# EAGLE library part ATMEL_MEGA8-P (library AdapterDIP8M16)
MICROCONTROLLER 8 Kbytes FLASH, 1 kbytes SRAM, 512 bytes EEPROM, USART, 4-channel 10 bit ADC, 2-channel 8 bit ADC Pin compatible with Atmega48, ATMega88, ATMega168 Source: avr.lbr
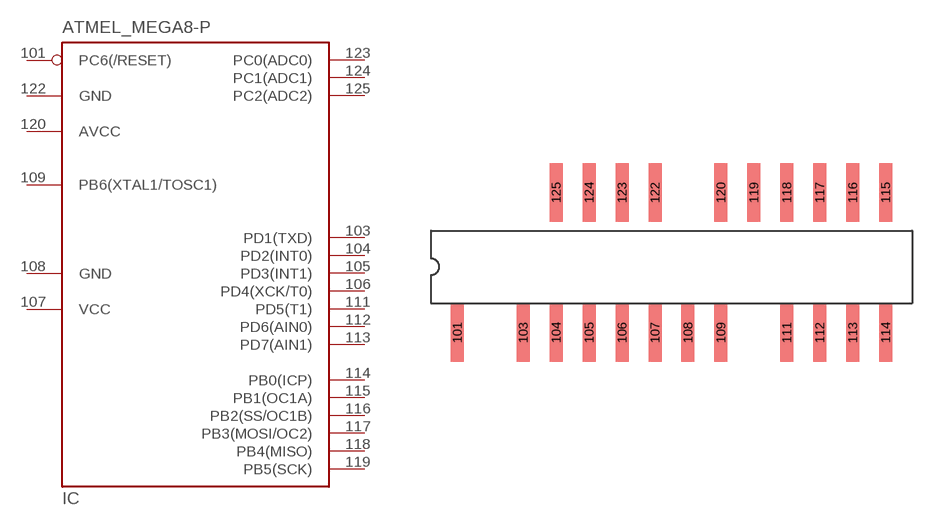
[diagram p2: symbol with the pads of ATMEL_DIL28-3; footprint ATMEL_DIL28-3]

Designator prefix IC

## ATMEL_MEGA8-P  [ATMEL_DIL28-3]
101  PC6(/RESET)
103  PD1(TXD)
104  PD2(INT0)
105  PD3(INT1)
106  PD4(XCK/T0)
107  VCC  pwr
108  GND  pwr
109  PB6(XTAL1/TOSC1)
111  PD5(T1)
112  PD6(AIN0)
113  PD7(AIN1)
114  PB0(ICP)
115  PB1(OC1A)
116  PB2(SS/OC1B)
117  PB3(MOSI/OC2)
118  PB4(MISO)
119  PB5(SCK)
120  AVCC  pwr
122  GND  pwr
123  PC0(ADC0)
124  PC1(ADC1)
125  PC2(ADC2)

## Footprint ATMEL_DIL28-3 (pad centres in mm)
Dual In Line 0.3 inch
smd 1 x 4.5: 101 -16.51,-5.08; 103 -11.43,-5.08; 104 -8.89,-5.08; 105 -6.35,-5.08; 106 -3.81,-5.08; 107 -1.27,-5.08; 108 1.27,-5.08; 109 3.81,-5.08; 111 8.89,-5.08; 112 11.43,-5.08; 113 13.97,-5.08; 114 16.51,-5.08; 115 16.51,5.715; 116 13.97,5.715; 117 11.43,5.715; 118 8.89,5.715; 119 6.35,5.715; 120 3.81,5.715; 122 -1.27,5.715; 123 -3.81,5.715; 124 -6.35,5.715; 125 -8.89,5.715